# EAGLE library part LTC1760 (library KVB-ICs)
Dual Smart Battery System Manager
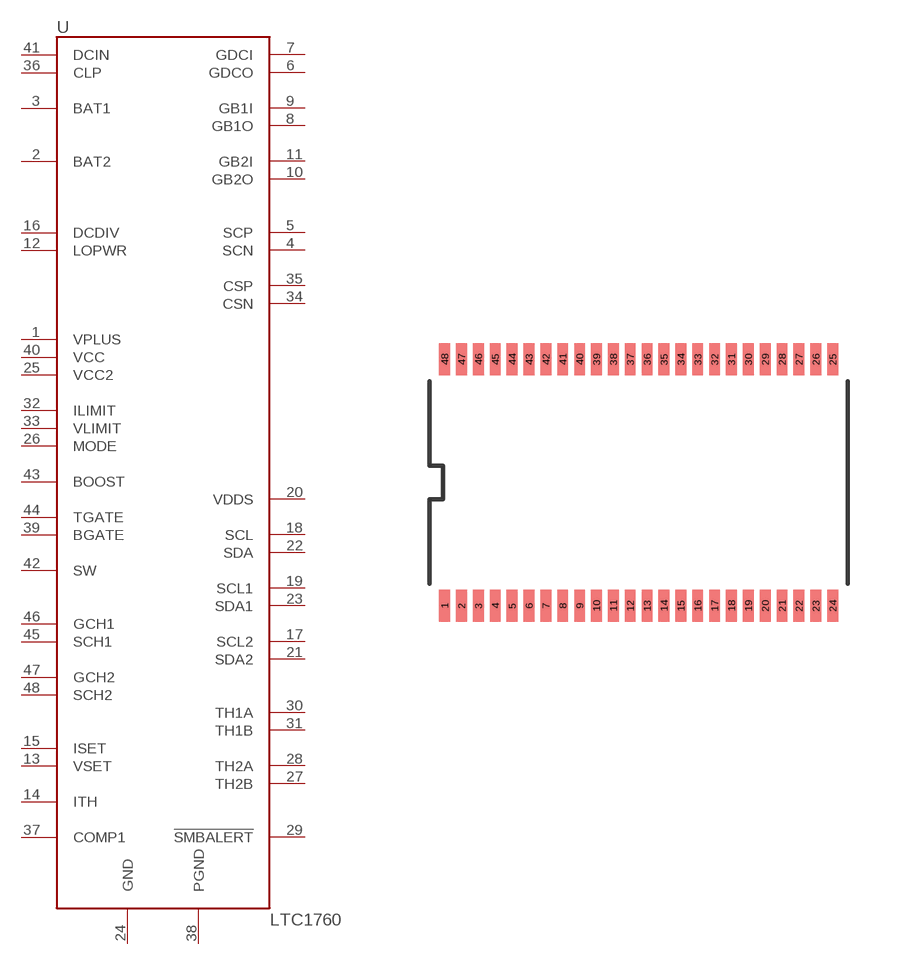
[diagram p4: symbol with the pads of LTC1760; footprint LTC1760]

Designator prefix U

## LTC1760 (MAN-PART_NUM: LTC1760; MANUFACTURER: Linear Technology)  [LTC1760]
1  VPLUS
2  BAT2
3  BAT1
4  SCN
5  SCP
6  GDCO
7  GDCI
8  GB1O
9  GB1I
10  GB2O
11  GB2I
12  LOPWR
13  VSET
14  ITH
15  ISET
16  DCDIV
17  SCL2
18  SCL
19  SCL1
20  VDDS
21  SDA2
22  SDA
23  SDA1
24  GND
25  VCC2
26  MODE
27  TH2B
28  TH2A
29  !SMBALERT
30  TH1A
31  TH1B
32  ILIMIT
33  VLIMIT
34  CSN
35  CSP
36  CLP
37  COMP1
38  PGND
39  BGATE
40  VCC
41  DCIN
42  SW
43  BOOST
44  TGATE
45  SCH1
46  GCH1
47  GCH2
48  SCH2

## Footprint LTC1760 (pad centres in mm)
smd 0.32 x 0.95: 1 -5.75,-3.65; 2 -5.25,-3.65; 3 -4.75,-3.65; 4 -4.25,-3.65; 5 -3.75,-3.65; 6 -3.25,-3.65; 7 -2.75,-3.65; 8 -2.25,-3.65; 9 -1.75,-3.65; 10 -1.25,-3.65; 11 -0.75,-3.65; 12 -0.25,-3.65; 13 0.25,-3.65; 14 0.75,-3.65; 15 1.25,-3.65; 16 1.75,-3.65; 17 2.25,-3.65; 18 2.75,-3.65; 19 3.25,-3.65; 20 3.75,-3.65; 21 4.25,-3.65; 22 4.75,-3.65; 23 5.25,-3.65; 24 5.75,-3.65; 25 5.75,3.65; 26 5.25,3.65; 27 4.75,3.65; 28 4.25,3.65; 29 3.75,3.65; 30 3.25,3.65; 31 2.75,3.65; 32 2.25,3.65; 33 1.75,3.65; 34 1.25,3.65; 35 0.75,3.65; 36 0.25,3.65; 37 -0.25,3.65; 38 -0.75,3.65; 39 -1.25,3.65; 40 -1.75,3.65; 41 -2.25,3.65; 42 -2.75,3.65; 43 -3.25,3.65; 44 -3.75,3.65; 45 -4.25,3.65; 46 -4.75,3.65; 47 -5.25,3.65; 48 -5.75,3.65